# Altium schematic symbol library INFINITY.Connector.SchLib: 12 symbols
Pins are listed as number, name and electrical type; pins without a type are passive.

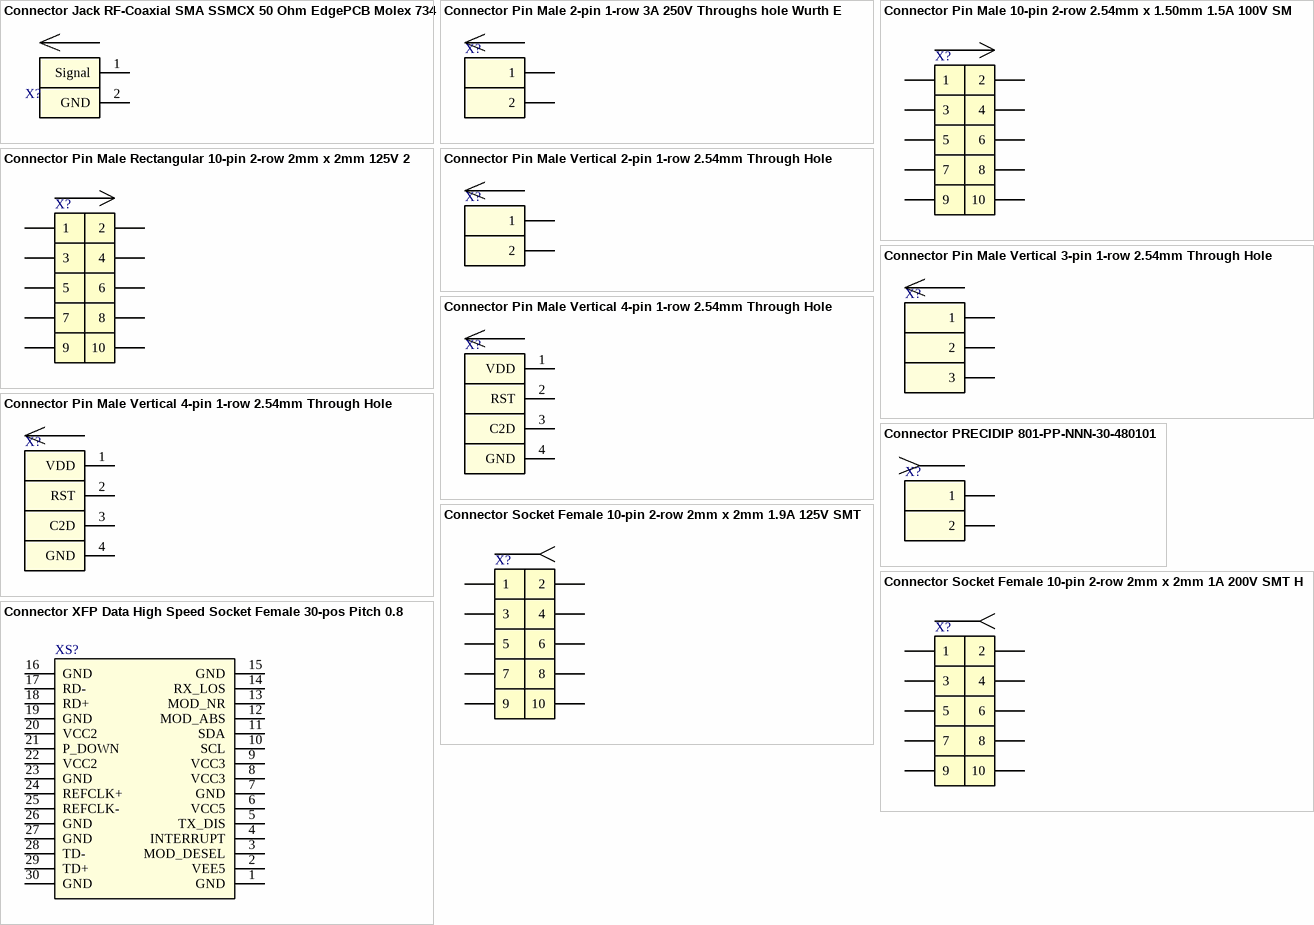
[diagram p0: symbols Connector Jack RF-Coaxial SMA SSMCX 50 Ohm EdgePCB Molex 734154670 to Connector XFP Data High Speed Socket Female 30-pos Pitch 0.8mm SMT TE Connectivity 788862-1]

## Connector Jack RF-Coaxial SMA SSMCX 50 Ohm EdgePCB Molex 734154670
designator X?
pins: 1 Signal "VCC", 2 GND

## Connector Pin Male 2-pin 1-row 3A 250V Throughs hole Wurth Electronics 61900219521
designator X?
pins: 1 "VCC", 2

## Connector Pin Male 10-pin 2-row 2.54mm x 1.50mm 1.5A 100V SMT Wurth Electronics WR-MM 690357281076
designator X?
pins: 1, 2, 3, 4, 5, 6, 7, 8, 9, 10

## Connector Pin Male Rectangular 10-pin 2-row 2mm x 2mm 125V 2A Series Milli-Grid 87759 SMT Molex 0877591014
designator X?
pins: 1, 2, 3, 4, 5, 6, 7, 8, 9, 10

## Connector Pin Male Vertical 2-pin 1-row 2.54mm Through Hole 250V 3A Wurth Electronics 61300211121
designator X?
pins: 1 "VCC", 2

## Connector Pin Male Vertical 3-pin 1-row 2.54mm Through Hole 250V 3A Wurth Electronics 61300311121
designator X?
pins: 1 "VCC", 2, 3

## Connector Pin Male Vertical 4-pin 1-row 2.54mm Through Hole 250V 3A Molex 0022232041
designator X?
pins: 1 VDD "VCC", 2 RST, 3 C2D, 4 GND

## Connector Pin Male Vertical 4-pin 1-row 2.54mm Through Hole 250V 3A Wurth Electronics 61300411121
designator X?
pins: 1 VDD "VCC", 2 RST, 3 C2D, 4 GND

## Connector PRECIDIP 801-PP-NNN-30-480101
designator X?
pins: 1 "VCC", 2

## Connector Socket Female 10-pin 2-row 2mm x 2mm 1.9A 125V SMT Molex 873811064
designator X?
pins: 1, 2, 3, 4, 5, 6, 7, 8, 9, 10

## Connector Socket Female 10-pin 2-row 2mm x 2mm 1A 200V SMT Hirose Electric A3-10DA-2SV(71)
designator X?
pins: 1, 2, 3, 4, 5, 6, 7, 8, 9, 10

## Connector XFP Data High Speed Socket Female 30-pos Pitch 0.8mm SMT TE Connectivity 788862-1
designator XS?, comment Part Number: 788862-1  (value not drawn)
No Description Available; Built_By: EMA_Justin; Vendor: TE Connectivity; PITCH(MM): 0.031; POSITIONS: 30; Copyright: Copyright (C) 2016 Accelerated Designs. All rights reserved; Manufacturer_Part_Number: 788862-1; TE_Part_Number: 788862-1; PRODUCT: Connector; Type: DEV; ROWS/CONFIG: -; RefDes: RefDes; Value: Value
pins: 1 GND, 2 VEE5, 3 MOD_DESEL, 4 INTERRUPT, 5 TX_DIS, 6 VCC5, 7 GND, 8 VCC3, 9 VCC3, 10 SCL, 11 SDA, 12 MOD_ABS, 13 MOD_NR, 14 RX_LOS, 15 GND, 16 GND, 17 RD-, 18 RD+, 19 GND, 20 VCC2, 21 P_DOWN, 22 VCC2, 23 GND, 24 REFCLK+, 25 REFCLK-, 26 GND, 27 GND, 28 TD-, 29 TD+, 30 GND